# EAGLE library part JS202011SCQN (library JS202011SCQN)
JS Series DPDT On-On Gull Wing Surface Mount Subminiature Slide Switch
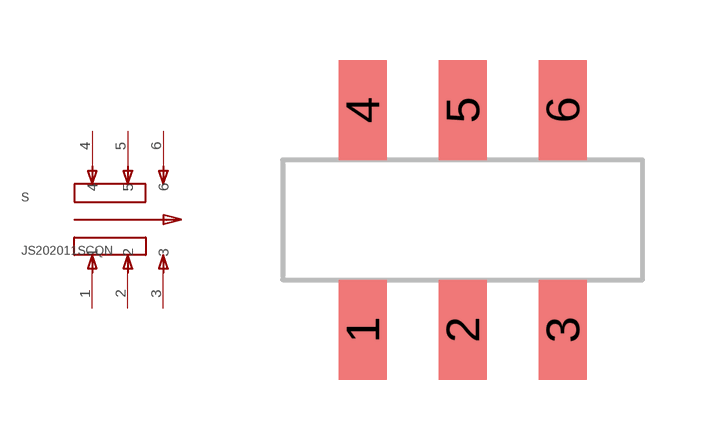
[diagram p0: symbol with the pads of SW_JS202011SCQN; footprint SW_JS202011SCQN]

Designator prefix S

## JS202011SCQN (Availability: Unavailable; Description: JS Series DPDT On-On Gull Wing Surface Mount Subminiature Slide Switch; MF: C&K; MP: JS202011SCQN; Package: None; Price: None)  [SW_JS202011SCQN]
1  1  pas
2  2  pas
3  3  pas
4  4  pas
5  5  pas
6  6  pas

## Footprint SW_JS202011SCQN (pad centres in mm)
smd 1.2 x 2.5: 1 -2.5,-2.75; 2 0,-2.75; 3 2.5,-2.75; 4 -2.5,2.75; 5 0,2.75; 6 2.5,2.75